# Altium footprint library PTCFuse.PcbLib: 2 footprints
Each footprint in its own frame and in the unit in brackets; x right, y up, seen from the top. Pads: shape width x height; smd on the part's side, far side on the other; paste and mask are expansions set on the pad; w line width, h text height; cw(c..) or ccw(c..) is an arc to the next point about the centre after c.
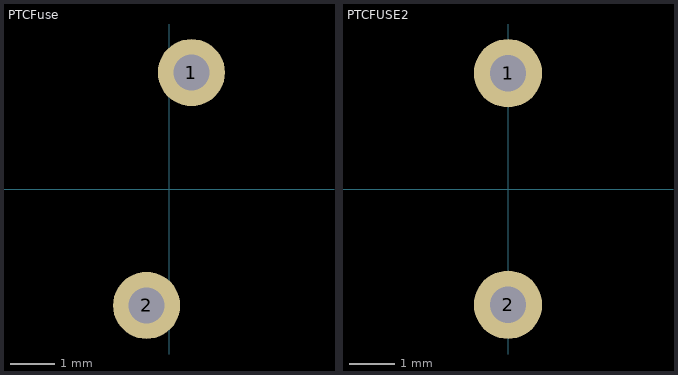
[diagram p0: the footprints below, top view; thin cyan lines are the x and y axes]

## PTCFuse [mm] "Ressettable Fuse"
pads (2):
  round 1.5 hole 0.8: 1(0.5,2.6) 2(-0.5,-2.6)
3D body: height 16, standoff -2.22, extent -0.85,-3.7 0.85,3.7

## PTCFUSE2 [mm] "Resettable Fuse Version 2"
pads (2):
  round 1.5 hole 0.8: 1(0,2.54) 2(0,-2.54)
3D body: height 11.5, standoff -18, extent -2.25,-4 2.25,4